# EAGLE library part DTM13-12PA-R008 (library DTM13-12PA-R008)
Deutsch DTM, 4.19mm Pitch, 12 Way, 2 Row, Right Angle PCB Header, Panel Mount, Through Hole Source: Datasheet <http://uk.rs-online.com/web/p/products/7242563>
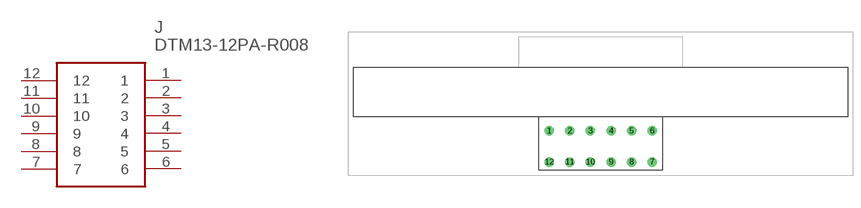
[diagram p0: symbol with the pads of DTM1312PAR008; footprint DTM1312PAR008]

Designator prefix J

## DTM13-12PA-R008 (Allied_Number: 70696164; Description: Deutsch DTM, 4.19mm Pitch, 12 Way, 2 Row, Right Angle PCB Header, Panel Mount, Through Hole; Height: 35mm; Manufacturer_Name: TE Connectivity; Manufacturer_Part_Number: DTM13-12PA-R008; RS_Part_Number: 7242563; RS_Price-Stock: http://uk.rs-online.com/web/p/products/7242563)  [DTM1312PAR008]
1  1
2  2
3  3
4  4
5  5
6  6
7  7
8  8
9  9
10  10
11  11
12  12

## Footprint DTM1312PAR008 (pad centres in mm)
DTM13-12PA-R008-2
drill 1.29 pad 1.935: 1 0,0; 2 4.19,0; 3 8.38,0; 4 12.57,0; 5 16.76,0; 6 20.95,0; 7 20.95,-6.35; 8 16.76,-6.35; 9 12.57,-6.35; 10 8.38,-6.35; 11 4.19,-6.35; 12 0,-6.35